# EAGLE library part TP4056 (library Custom_Parts)
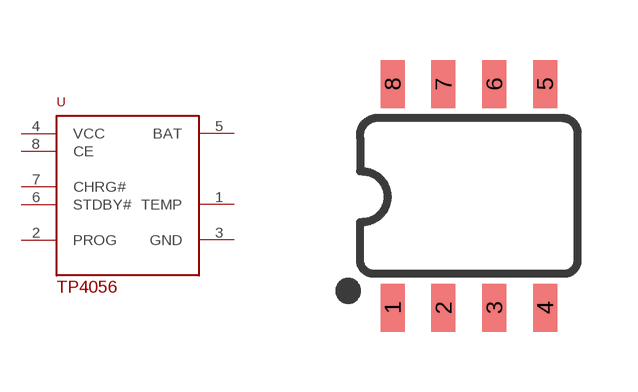
[diagram p1: symbol with the pads of SO08; footprint SO08]

Designator prefix -

## TP4056  [SO08]
1  TEMP
2  PROG
3  GND
4  VCC
5  BAT
6  STDBY#
7  CHRG#
8  CE

## Footprint SO08 (pad centres in mm)
SOIC -8 Specifications: Pin count: 8 Width: 0.15" Example device(s): MCP2551
smd 0.6 x 1.2: 1 -1.905,-2.8; 2 -0.635,-2.8; 3 0.635,-2.8; 4 1.905,-2.8; 5 1.905,2.8; 6 0.635,2.8; 7 -0.635,2.8; 8 -1.905,2.8